# Altium schematic symbol library SMPS_LM2576-12.0.Schlib: 1 symbol
Pins are listed as number, name and electrical type; pins without a type are passive.

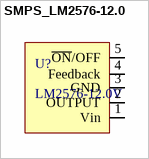
[diagram p0: symbol SMPS_LM2576-12.0]

## SMPS_LM2576-12.0
designator U?, comment LM2576-12.0V
IC REG BUCK 12.0V 3A
footprint TO220-5-STAGGERED
footprint TO220-5-STAGGERED_JACKETED
footprint DPAK170P1435X465-6N (D2-PAK, 6-Pads, Body 7.55x8.57mm (max), IPC Medium Density)
pins: 1 Vin, 2 OUTPUT, 3 GND, 4 Feedback, 5 ~{ON}/OFF